# Altium footprint library B6B-PH-SM4-TB_LF__SN_.PcbLib: 2 footprints
Each footprint in its own frame and in the unit in brackets; x right, y up, seen from the top. Pads: shape width x height; smd on the part's side, far side on the other; paste and mask are expansions set on the pad; w line width, h text height; cw(c..) or ccw(c..) is an arc to the next point about the centre after c.
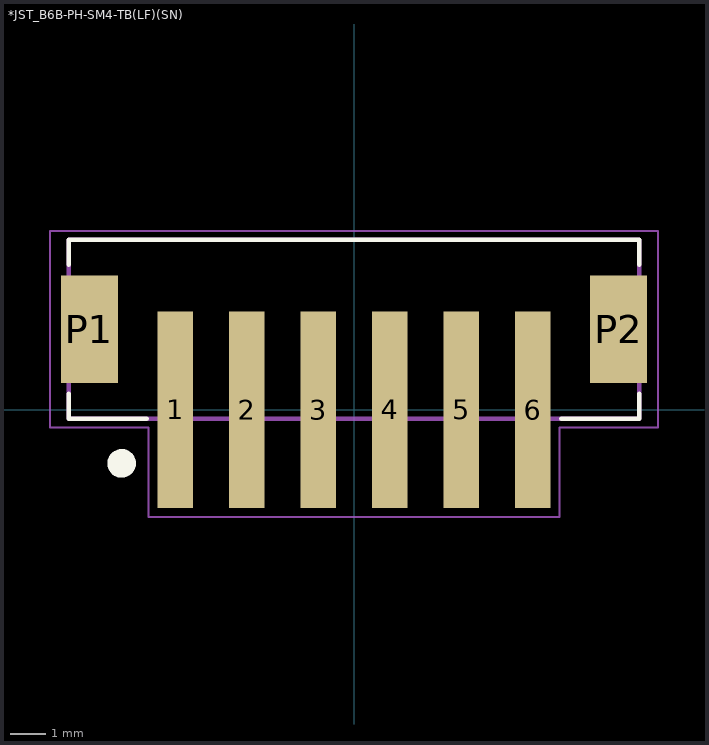
[diagram p0: the footprints below, top view; thin cyan lines are the x and y axes]

## *JST_B6B-PH-SM4-TB(LF)(SN) [mm]
pads (8):
  rect 1x5.5 smd: 1(-5,0) 2(-3,0) 3(-1,0) 4(1,0) 5(3,0) 6(5,0)
  rect 1.6x3 smd: P1(-7.4,2.25) P2(7.4,2.25)
Top Overlay:
  circle w0.4: c-6.5,-1.5 r0.2
  lines w0.127: -7.975,0.45 -7.975,-0.25 -5.8,-0.25 ; -7.975,4.05 -7.975,4.75 7.975,4.75 7.975,4.05 ; 5.8,-0.25 7.975,-0.25 7.975,0.45
Mechanical 4:
  lines w0.127: -7.975,-0.25 -7.975,4.75 ; -7.975,-0.25 7.975,-0.25 ; -7.975,-0.25 -7.975,4.75 ; -7.975,-0.25 7.975,-0.25 ; -7.975,4.75 7.975,4.75 ; -7.975,4.75 7.975,4.75 ; 7.975,-0.25 7.975,4.75 ; 7.975,-0.25 7.975,4.75
Mechanical 16:
  lines w0.05: -8.5,-0.5 -8.5,5 8.5,5 8.5,-0.5 5.75,-0.5 5.75,-3 -5.75,-3 -5.75,-0.5 -8.5,-0.5

## PCBComponent_1 [mm]